# Altium schematic symbol library Motors.SchLib: 1 symbol
Pins are listed as number, name and electrical type; pins without a type are passive.

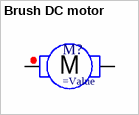
[diagram p0: symbol Brush DC motor]

## Brush DC motor
designator M?  (net tie)
PMDC Motor; Value: FF-180PHV-3045D; VoltageMin: 1V; VoltageMax: 4.5V; Voltage: 2.4V; PowerMax: 2.9W; EffeciencyMax: 66.32%; TorqueMax: 140gcm; CurrentMax: 5.2A; NoLoadSpeed: 8000RPM; TorqueConst: 26.92gcm/A; MotorRegulation: 57.67RPM/gcm; BOMString: FF-180PHV-3045D; Name: FF-180PHV-3045D
pins: 1, 2
text: M